# EAGLE library part AD8293G (library linear)
IC OPAMP INSTR 500HZ RRO
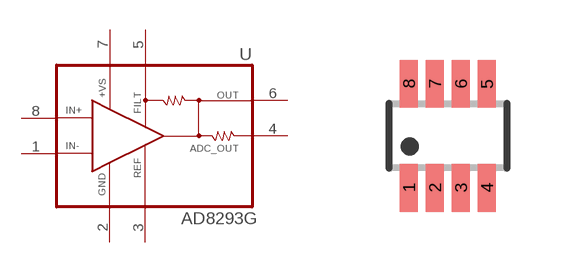
[diagram p217: symbol with the pads of SOT23-8; footprint SOT23-8]

Designator prefix U

## AD8293G  [SOT23-8]
1  IN-\  in
2  GND  pwr
3  REF  pas
4  ADCOUT
5  FILT  pas
6  OUT
7  +VS  pwr
8  IN+  in

## Footprint SOT23-8 (pad centres in mm)
SOT-23 - DCN 0.65 mm pitch
smd 0.45 x 1.2: 1 -0.975,-1.3; 2 -0.325,-1.3; 3 0.325,-1.3; 4 0.975,-1.3; 5 0.975,1.3; 6 0.325,1.3; 7 -0.325,1.3; 8 -0.975,1.3